# EAGLE library part VAL2724A (library GPIB_epccs)
Resistance Source, Valhalla 2724A
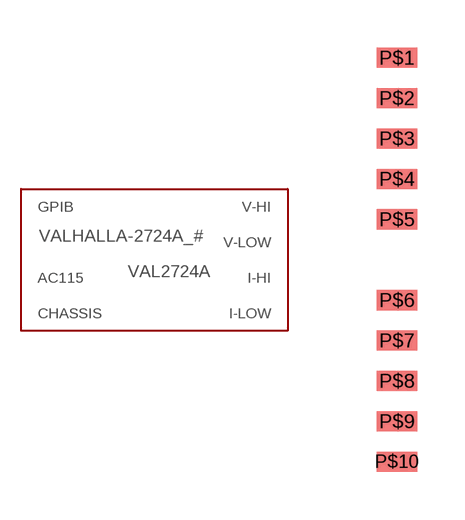
[diagram p3: symbol with the pads of POS10; footprint POS10]

Designator prefix VALHALLA-2724A_#

## VAL2724A  [POS10]
P$1  AC115
P$2  CHASSIS
P$3  GPIB
P$4  I-HI
P$5  I-LOW
P$6  V-HI
P$7  V-LOW

## Footprint POS10 (pad centres in mm)
10 position
smd 1.27 x 0.635: P$1 0,6.35; P$2 0,5.08; P$3 0,3.81; P$4 0,2.54; P$5 0,1.27; P$6 0,-1.27; P$7 0,-2.54; P$8 0,-3.81; P$9 0,-5.08; P$10 0,-6.35